# EAGLE library part 20V (library con-harting-v)
CONNECTOR
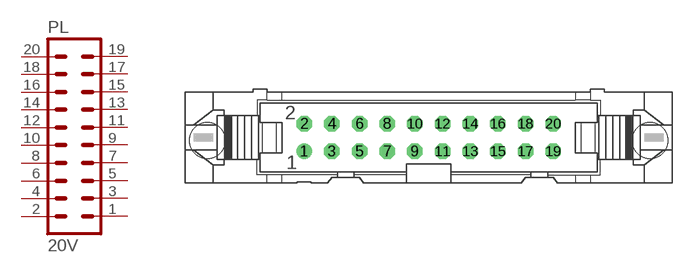
[diagram p7: symbol with the pads of 20V; footprint 20V]

Designator prefix PL

## 20V (OC_FARNELL: unknown; OC_NEWARK: unknown)  [20V]
1  1  pas
2  2  pas
3  3  pas
4  4  pas
5  5  pas
6  6  pas
7  7  pas
8  8  pas
9  9  pas
10  10  pas
11  11  pas
12  12  pas
13  13  pas
14  14  pas
15  15  pas
16  16  pas
17  17  pas
18  18  pas
19  19  pas
20  20  pas

## Footprint 20V (pad centres in mm)
CONNECTOR
drill 0.914: 1 -11.43,-1.27
drill 0.914 octagon: 2 -11.43,1.27; 3 -8.89,-1.27; 4 -8.89,1.27; 5 -6.35,-1.27; 6 -6.35,1.27; 7 -3.81,-1.27; 8 -3.81,1.27; 9 -1.27,-1.27; 10 -1.27,1.27; 11 1.27,-1.27; 12 1.27,1.27; 13 3.81,-1.27; 14 3.81,1.27; 15 6.35,-1.27; 16 6.35,1.27; 17 8.89,-1.27; 18 8.89,1.27; 19 11.43,-1.27; 20 11.43,1.27
hole 3.302 at 20.32,-0.254
hole 3.302 at -20.32,-0.254